# EAGLE library part BEAGLEBONE (library BeagleBoneBlack2)
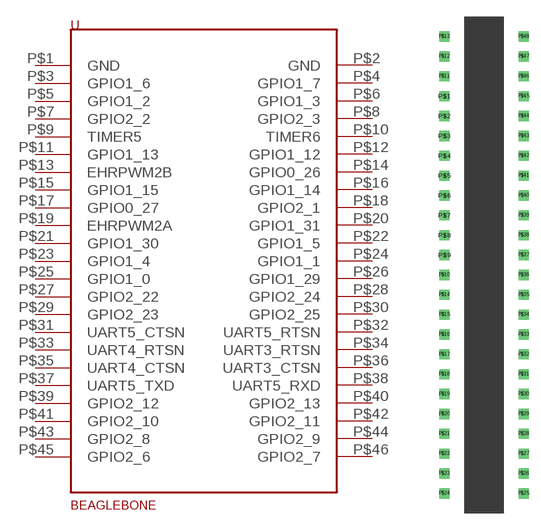
[diagram p0: symbol with the pads of BEAGLEBONE; footprint BEAGLEBONE]

Designator prefix -

## BEAGLEBONE  [BEAGLEBONE]
P$1  GND
P$2  GND
P$3  GPIO1_6
P$4  GPIO1_7
P$5  GPIO1_2
P$6  GPIO1_3
P$7  GPIO2_2
P$8  GPIO2_3
P$9  TIMER5
P$10  TIMER6
P$11  GPIO1_13
P$12  GPIO1_12
P$13  EHRPWM2B
P$14  GPIO0_26
P$15  GPIO1_15
P$16  GPIO1_14
P$17  GPIO0_27
P$18  GPIO2_1
P$19  EHRPWM2A
P$20  GPIO1_31
P$21  GPIO1_30
P$22  GPIO1_5
P$23  GPIO1_4
P$24  GPIO1_1
P$25  GPIO1_0
P$26  GPIO1_29
P$27  GPIO2_22
P$28  GPIO2_24
P$29  GPIO2_23
P$30  GPIO2_25
P$31  UART5_CTSN
P$32  UART5_RTSN
P$33  UART4_RTSN
P$34  UART3_RTSN
P$35  UART4_CTSN
P$36  UART3_CTSN
P$37  UART5_TXD
P$38  UART5_RXD
P$39  GPIO2_12
P$40  GPIO2_13
P$41  GPIO2_10
P$42  GPIO2_11
P$43  GPIO2_8
P$44  GPIO2_9
P$45  GPIO2_6
P$46  GPIO2_7

## Footprint BEAGLEBONE (pad centres in mm)
drill 0.8 square: P$1 -6.35,3.81; P$2 -6.35,1.27; P$3 -6.35,-1.27; P$4 -6.35,-3.81; P$5 -6.35,-6.35; P$6 -6.35,-8.89; P$7 -6.35,-11.43; P$8 -6.35,-13.97; P$9 -6.35,-16.51; P$10 -6.35,-19.05; P$11 -6.35,6.35; P$12 -6.35,8.89; P$13 -6.35,11.43; P$14 -6.35,-21.59; P$15 -6.35,-24.13; P$16 -6.35,-26.67; P$17 -6.35,-29.21; P$18 -6.35,-31.75; P$19 -6.35,-34.29; P$20 -6.35,-36.83; P$21 -6.35,-39.37; P$22 -6.35,-41.91; P$23 -6.35,-44.45; P$24 -6.35,-46.99; P$25 3.81,-46.99; P$26 3.81,-44.45; P$27 3.81,-41.91; P$28 3.81,-39.37; P$29 3.81,-36.83; P$30 3.81,-34.29; P$31 3.81,-31.75; P$32 3.81,-29.21; P$33 3.81,-26.67; P$34 3.81,-24.13; P$35 3.81,-21.59; P$36 3.81,-19.05; P$37 3.81,-16.51; P$38 3.81,-13.97; P$39 3.81,-11.43; P$40 3.81,-8.89; P$41 3.81,-6.35; P$42 3.81,-3.81; P$43 3.81,-1.27; P$44 3.81,1.27; P$45 3.81,3.81; P$46 3.81,6.35; P$47 3.81,8.89; P$48 3.81,11.43